# EAGLE library part LM2776 (library Bits_library_eagle)
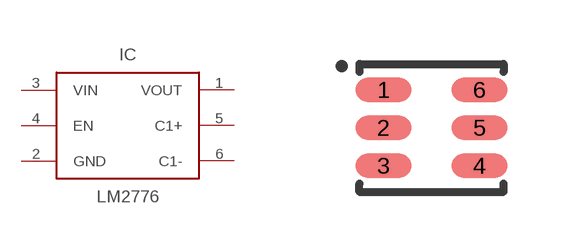
[diagram p4: symbol with the pads of SOT-23-6; footprint SOT-23-6]

Designator prefix IC

## LM2776SOT  [SOT-23-6]
1  VOUT
2  GND
3  VIN
4  EN
5  C1+
6  C1-

## Footprint SOT-23-6 (pad centres in mm)
Small Outline Transistor
smd 1.4 x 0.6: 1 -1.2,0.95; 2 -1.2,0; 3 -1.2,-0.95; 4 1.2,-0.95; 5 1.2,0; 6 1.2,0.95